# EAGLE library part 750871111 (library Midcom Inc - EAGLE Lib V2-0)
Package Style: EE20/10/6 Mounting: THT Pins: 8 pins Bobbin: 070-5406 Best pinouts for production vary per application. Please contact Wurth Electronics Midcom, Inc. for assistance with your custom design. Website: Wurth Electronics Midcom <http://www.we-online.com/midcom> Contact us Wurth Electronics Midcom, Inc. 121 Airport Dr. Watertown, SD 57201 Phone: (605) 886-4385 Fax: (605) 886-4486 E-Mail: midcom@we-online.com
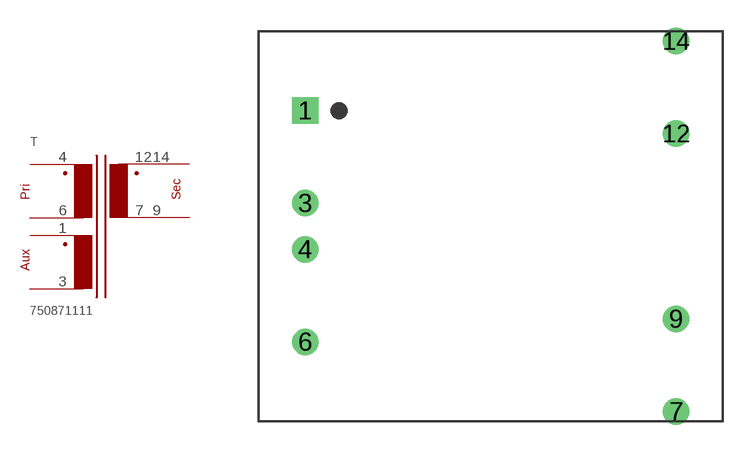
[diagram p356: symbol with the pads of EE20/10/6_THT_H_8PIN_(5406); footprint EE20/10/6_THT_H_8PIN_(5406)]

Designator prefix T

## 750871111  [EE20/10/6_THT_H_8PIN_(5406)]
1  1  pas
3  3  pas
4  4  pas
6  6  pas
7  7  pas
9  9  pas
12  12  pas
14  14  pas

## Footprint EE20/10/6_THT_H_8PIN_(5406) (pad centres in mm)
Package Style: EE20/10/6 Mounting: THT Pins: 14 Bobbin: 070-5406
drill 0.914 square: 1 -9.995,6.223
drill 0.914: 3 -9.995,1.245; 4 -9.995,-1.245; 6 -9.995,-6.223; 7 9.995,-9.97; 9 9.995,-4.991; 12 9.995,4.991; 14 9.995,9.97